# Altium schematic symbol library BluePill.SCHLIB: 2 symbols
Pins are listed as number, name and electrical type; pins without a type are passive.

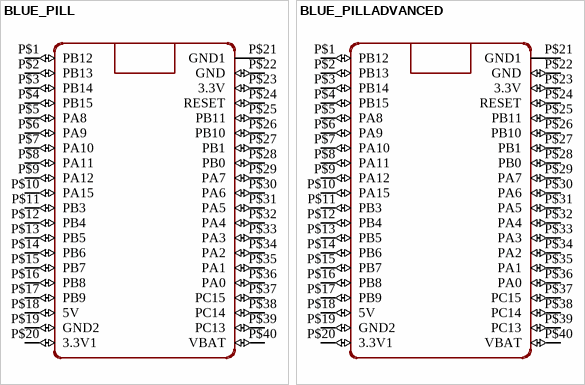
[diagram p0: symbols BLUE_PILL to BLUE_PILLADVANCED]

## BLUE_PILL
designator ?
GateName_1: G$1; SymbolName_1: BLUE_PILL; LibraryName: BluePill; DeviceSetName: BLUE_PILL; Package: BLUE_PILL
footprint BLUE_PILL
pins: P$1 PB12 (io), P$2 PB13 (io), P$3 PB14 (io), P$4 PB15 (io), P$5 PA8 (io), P$6 PA9 (io), P$7 PA10 (io), P$8 PA11 (io), P$9 PA12 (io), P$10 PA15 (io), P$11 PB3 (io), P$12 PB4 (io), P$13 PB5 (io), P$14 PB6 (io), P$15 PB7 (io), P$16 PB8 (io), P$17 PB9 (io), P$18 5V (io), P$19 GND2 (io), P$20 3.3V1 (io), P$21 GND1 (power), P$22 GND (io), P$23 3.3V (io), P$24 RESET (io), P$25 PB11 (io), P$26 PB10 (io), P$27 PB1 (io), P$28 PB0 (io), P$29 PA7 (io), P$30 PA6 (io), P$31 PA5 (io), P$32 PA4 (io), P$33 PA3 (io), P$34 PA2 (io), P$35 PA1 (io), P$36 PA0 (io), P$37 PC15 (io), P$38 PC14 (io), P$39 PC13 (io), P$40 VBAT (io)

## BLUE_PILLADVANCED
designator ?
GateName_1: G$1; SymbolName_1: BLUE_PILL; DeviceName: ADVANCED; LibraryName: BluePill; DeviceSetName: BLUE_PILL; Package: BLUE_PILL_ADV
footprint BLUE_PILL_ADV
pins: P$1 PB12 (io), P$2 PB13 (io), P$3 PB14 (io), P$4 PB15 (io), P$5 PA8 (io), P$6 PA9 (io), P$7 PA10 (io), P$8 PA11 (io), P$9 PA12 (io), P$10 PA15 (io), P$11 PB3 (io), P$12 PB4 (io), P$13 PB5 (io), P$14 PB6 (io), P$15 PB7 (io), P$16 PB8 (io), P$17 PB9 (io), P$18 5V (io), P$19 GND2 (io), P$20 3.3V1 (io), P$21 GND1 (power), P$22 GND (io), P$23 3.3V (io), P$24 RESET (io), P$25 PB11 (io), P$26 PB10 (io), P$27 PB1 (io), P$28 PB0 (io), P$29 PA7 (io), P$30 PA6 (io), P$31 PA5 (io), P$32 PA4 (io), P$33 PA3 (io), P$34 PA2 (io), P$35 PA1 (io), P$36 PA0 (io), P$37 PC15 (io), P$38 PC14 (io), P$39 PC13 (io), P$40 VBAT (io)